# EAGLE library part LT1990 (library lt1990)
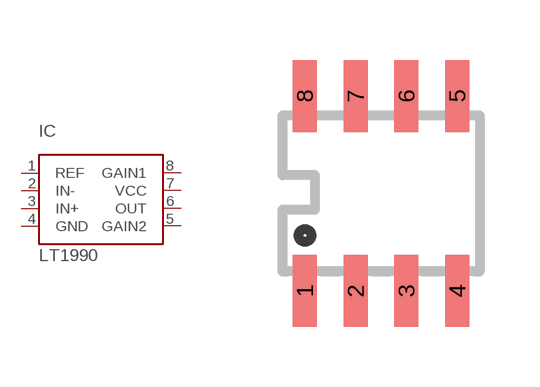
[diagram p0: symbol with the pads of SO8; footprint SO8]

Designator prefix IC

## LT1990SO8  [SO8]
1  REF  pas
2  IN-  in
3  IN+  in
4  GND  sup
5  GAIN2  pas
6  OUT  out
7  VCC  sup
8  GAIN1  pas

## Footprint SO8 (pad centres in mm)
smd 0.6 x 1.8: 1 -1.905,-2.44; 2 -0.635,-2.44; 3 0.635,-2.44; 4 1.905,-2.44; 5 1.905,2.44; 6 0.635,2.44; 7 -0.635,2.44; 8 -1.905,2.44